# Altium footprint library 2.62-SMD.PcbLib: 45 footprints (part 1 of 3)
Each footprint in its own frame and in the unit in brackets; x right, y up, seen from the top. Pads: shape width x height; smd on the part's side, far side on the other; paste and mask are expansions set on the pad; w line width, h text height; cw(c..) or ccw(c..) is an arc to the next point about the centre after c.
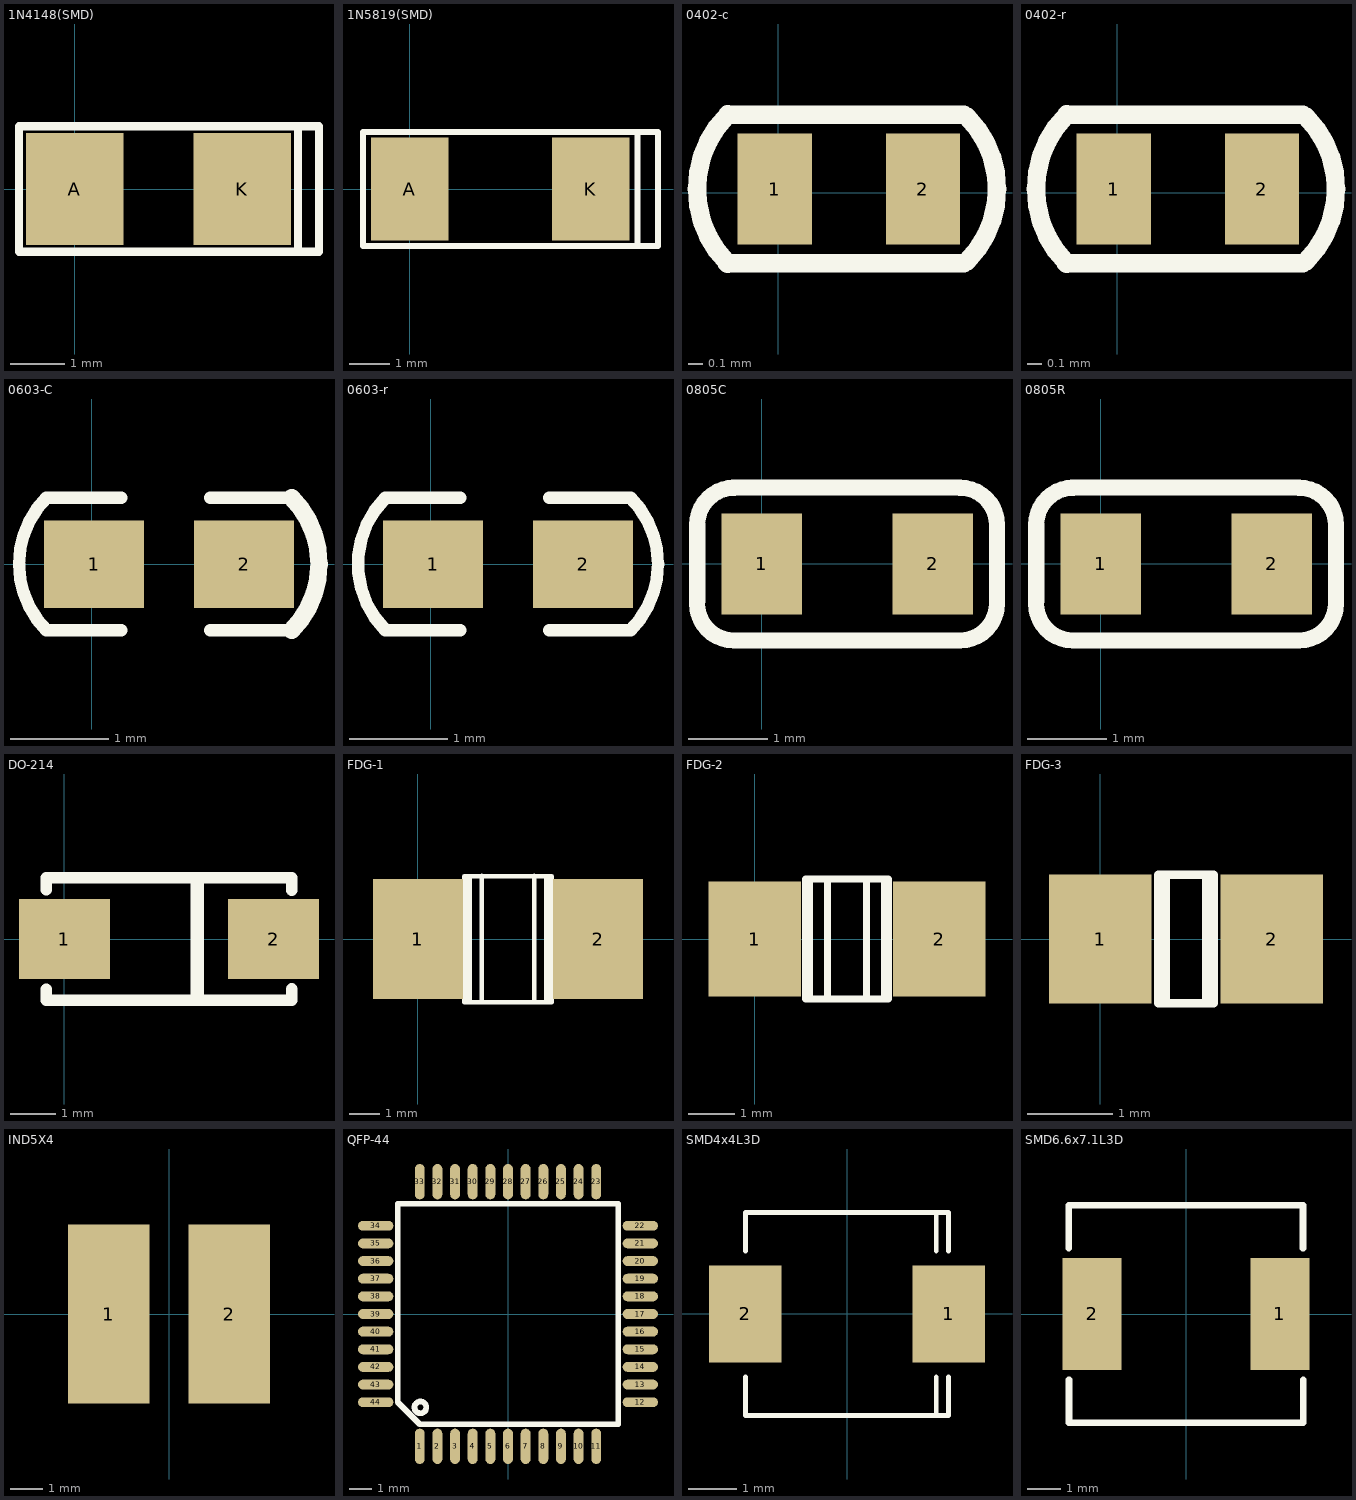
[diagram p0: the footprints below, top view; thin cyan lines are the x and y axes]

## 1N4148(SMD) [mil] "淘宝ID:黄晶宝石"
pads (2):
  rect 70x80 smd: A(0,0) K(120,0)
Top Overlay:
  lines w5.91: 160,-45 160,45 ; -40,-45 -40,45 175,45 175,-45 -40,-45
3D body "1N4148(SMD).step": height 55.12, standoff 0, extent -8.9,-27.56 128.9,27.56

## 1N5819(SMD) [mm] "淘宝ID:黄晶宝石"
pads (2):
  rect 1.905x2.54 smd: A(0,0) K(4.445,0)
Top Overlay:
  lines w0.15: 5.588,-1.397 5.588,1.397 ; -1.143,-1.397 6.096,-1.397 6.096,1.397 -1.143,1.397 -1.143,-1.397
3D body "User Library-DO-214AC SMA.step": height 2.4, standoff 0, extent -0.377,-1.3 4.822,1.3

## 0402-c [mil] "淘宝ID:黄晶宝石"
pads (2):
  rect 20x30 smd: 1(-1,1) 2(39,1)
Top Overlay:
  lines w5: -14,-19 50,-19 ; -13.65,-19.15 cw(c6.5,1) -13.65,21.15 ; -13,21 50,21 ; 50.95,-18.45 ccw(c31.5,1) 50.95,20.45
3D body "0402 SMD Capacitor.step": height 7.95, standoff 0, extent 0,-10.81 39.37,12.81

## 0402-r [mil] "淘宝ID:黄晶宝石"
pads (2):
  rect 20x30 smd: 1(-1,1) 2(39,1)
Top Overlay:
  lines w5: -14,-19 50,-19 ; -13.65,-19.15 cw(c6.5,1) -13.65,21.15 ; -13,21 50,21 ; 50.95,-18.45 ccw(c31.5,1) 50.95,20.45
3D body "User Library-RES_1005-0402.STEP": height 16.14, standoff 0, extent -4.64,-10 40.64,11.65

## 0603-C [mil] "淘宝ID:黄晶宝石"
pads (2):
  rect 40x35 smd: 1(1,0) 2(61,0)
Top Overlay:
  lines w5: 11.98,-26.5 -18.02,-26.5 cw(c8.5,0) -18.02,26.52 11.98,26.5 ; 47.52,-26.52 80.02,-26.5 ; 47.52,26.5 80.02,26.5
  lines w7: 80.02,-26.52 ccw(c53.5,0) 80.02,26.52
3D body "User Library-0603 SMD Capacitor.STEP": height 11.89, standoff 0, extent 0,-15.75 62.99,15.75

## 0603-r [mil] "淘宝ID:黄晶宝石"
pads (2):
  rect 40x35 smd: 1(1,0) 2(61,0)
Top Overlay:
  lines w5: 11.98,-26.5 -18.02,-26.5 cw(c8.5,0) -18.02,26.52 11.98,26.5 ; 47.52,-26.52 80.02,-26.5 ccw(c53.5,0) 80.02,26.52 47.52,26.5
3D body "User Library-RES_1609-0603.STEP": height 22.05, standoff 0, extent -3.46,-16 63.46,15.5

## 0805C [mil] "淘宝ID:黄晶宝石"
height 39.37
pads (2):
  rect 40x50 smd: 1(0,0) 2(85,0)
Top Overlay:
  lines w8: -32.11,-19.59 ccw(c-13.7,-19.59) -13.7,-38 ; -32,-18.5 -32,18.5 ; -32,19.5 cw(c-13.59,19.5) -13.59,37.91 ; -14.12,38 98.09,38 ; -12.7,-38 98.11,-38 ; 98.59,-38 ccw(c98.59,-19.59) 117,-19.59 ; 98.59,37.91 cw(c98.59,19.5) 117,19.5 ; 117,-18.59 117,18.5
3D body "User Library-0805 SMD Capacitor.STEP": height 30.39, standoff -0.39, extent 3.15,-24.61 81.89,24.61

## 0805R [mil] "淘宝ID:黄晶宝石"
height 39.37
pads (2):
  rect 40x50 smd: 1(0,0) 2(85,0)
Top Overlay:
  lines w8: -32.11,-19.59 ccw(c-13.7,-19.59) -13.7,-38 ; -32,-18.5 -32,18.5 ; -32,19.5 cw(c-13.59,19.5) -13.59,37.91 ; -14.12,38 98.09,38 ; -12.7,-38 98.11,-38 ; 98.59,-38 ccw(c98.59,-19.59) 117,-19.59 ; 98.59,37.91 cw(c98.59,19.5) 117,19.5 ; 117,-18.59 117,18.5
3D body "User Library-0805 SMD R.STEP": height 30.39, standoff -0.39, extent 3.26,-24.61 82,24.61

## DO-214 [mm]
height 2.7
pads (2):
  rect 2x1.75 smd: 1(0,0) 2(4.6,0)
Top Overlay:
  lines w0.254: -0.4,-1.105 -0.4,-1.35 5,-1.35 5,-1.1 ; -0.4,1.08 -0.4,1.35 4.995,1.35 ; 5,1.075 5,1.35
  lines w0.3: 2.92,-1.3 2.92,1.3
3D body "User Library-S1G.STEP": height 2.12, standoff -0.02, extent -0.198,-1.342 4.908,1.325

## FDG-1 [mm]
pads (2):
  rect 3x4 smd: 1(0,0) 2(6,0)
Top Overlay:
  lines w0.15: 1.641,-2.101 1.641,2.099 ; 1.728,-2.101 1.728,2.099 ; 2.123,-2.098 2.123,2.102 ; 3.877,-2.098 3.877,2.102 ; 4.272,-2.101 4.272,2.099 ; 4.359,-2.101 4.359,2.099 ; 1.541,-2.101 4.459,-2.101 4.459,2.099 1.541,2.099 1.541,-2.101
3D body "User Library-ATC-c.step": height 6.39, standoff 0.01, extent 0.08,-2.1 5.92,2.1

## FDG-2 [mm]
pads (2):
  rect 2x2.5 smd: 1(0,0) 2(4,0)
Top Overlay:
  lines w0.15: 1.187,-1.3 1.187,1.3 ; 1.582,-1.3 1.582,1.3 ; 2.418,-1.3 2.418,1.3 ; 2.813,-1.3 2.813,1.3 ; 1.1,-1.3 1.1,1.3 2.9,1.3 2.9,-1.3 1.1,-1.3
3D body "User Library-ATC-b.step": height 2.81, standoff -0.01, extent 0.605,-1.291 3.395,1.309

## FDG-3 [mm]
pads (2):
  rect 1.2x1.5 smd: 1(0,0) 2(2,0)
Top Overlay:
  lines w0.1: 0.762,-0.75 0.762,0.75 ; 1.238,-0.75 1.238,0.75 ; 0.675,-0.75 0.675,0.75 1.325,0.75 1.325,-0.75 0.675,-0.75
3D body "User Library-ATC-a.step": height 1.42, standoff -0.01, extent 0.3,-0.73 1.7,0.73

## IND5X4 [mm]
height 4.5
pads (2):
  rect 2.5x5.5 smd: 1(-1.85,0) 2(1.85,0)
3D body "电感.STEP": height 4.5, standoff -0.01, extent -2.857,-2.6 2.857,2.6

## QFP-44 [mm]
pads (44):
  oval 0.45x1.6 smd: 1(-4,-6) 2(-3.2,-6) 3(-2.4,-6) 4(-1.6,-6) 5(-0.8,-6) 6(0,-6) 7(0.8,-6) 8(1.6,-6) 9(2.4,-6) 10(3.2,-6) 11(4,-6) 23(4,6) 24(3.2,6) 25(2.4,6) 26(1.6,6) 27(0.8,6) 28(0,6) 29(-0.8,6) 30(-1.6,6) 31(-2.4,6) 32(-3.2,6) 33(-4,6)
  oval 1.6x0.45 smd: 12(6,-4) 13(6,-3.2) 14(6,-2.4) 15(6,-1.6) 16(6,-0.8) 17(6,0) 18(6,0.8) 19(6,1.6) 20(6,2.4) 21(6,3.2) 22(6,4) 34(-6,4) 35(-6,3.2) 36(-6,2.4) 37(-6,1.6) 38(-6,0.8) 39(-6,0) 40(-6,-0.8) 41(-6,-1.6) 42(-6,-2.4) 43(-6,-3.2) 44(-6,-4)
Top Overlay:
  circle w0.254: c-3.972,-4.232 r0.267
  lines w0.254: -5,-4 -4,-5 5,-5 5,5 -5,5 -5,-4
3D body "User Library-44 pin tqfp ic package.STEP": height 1.1, standoff -0.01, extent -6.006,-6 5.994,6

## SMD4x4L3D [mm]
height 3
pads (2):
  rect 1.5x2 smd: 1(2.1,0) 2(-2.1,0)
Top Overlay:
  lines w0.1: -2.1,-1.3 -2.1,-2.1 2.1,-2.1 2.1,-1.3 ; -2.1,1.3 -2.1,2.1 2.1,2.1 2.1,1.3 ; 1.846,-2.1 1.846,-1.3 ; 1.846,1.3 1.846,2.1
3D body: height 2.45, standoff 0.03, extent -2.159,-2.032 2.159,2.032

## SMD6.6x7.1L3D [mm]
height 3
pads (2):
  rect 1.8x3.4 smd: 1(2.85,0) 2(-2.85,0)
Top Overlay:
  lines w0.2: -3.561,2 -3.561,3.3 3.489,3.3 ; -3.55,-3.3 -3.55,-2 ; -3.489,-3.3 3.561,-3.3 3.561,-2 ; 3.55,2 3.55,3.3
3D body: height 2.45, standoff 0.03, extent -3.429,-3.175 3.429,3.175